# Altium footprint library MODULE_ESP32-S3-DEVKITC-1U-N8R8.PcbLib: 1 footprints
Each footprint in its own frame and in the unit in brackets; x right, y up, seen from the top. Pads: shape width x height; smd on the part's side, far side on the other; paste and mask are expansions set on the pad; w line width, h text height; cw(c..) or ccw(c..) is an arc to the next point about the centre after c.
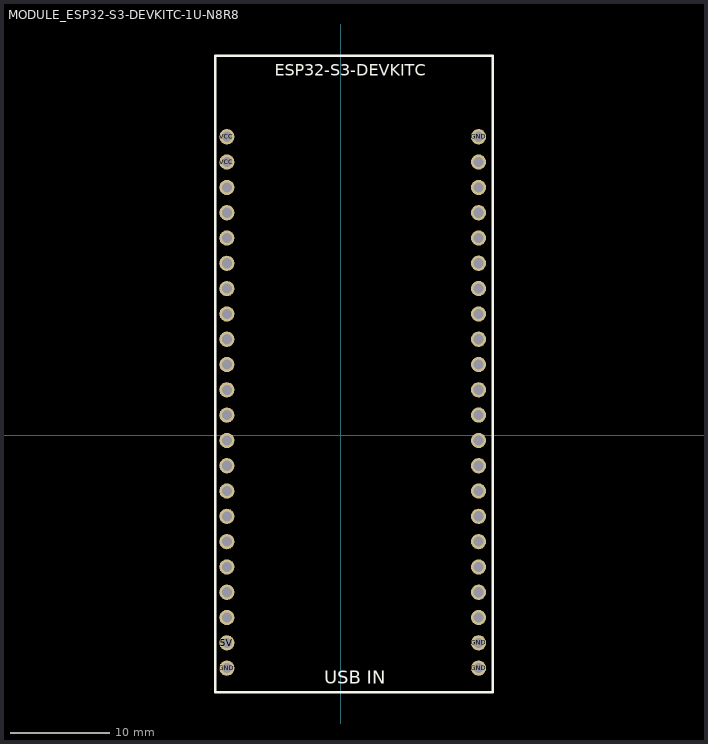
[diagram p0: the footprint, top view; thin cyan lines are the x and y axes]

## MODULE_ESP32-S3-DEVKITC-1U-N8R8 [mm]
height 7.39
pads (44):
  round 1.53 hole 1.02 mask+0.102: 5V(-11.43,-20.83) GND(-11.43,-23.37) GND(13.843,-23.368) GND(13.843,-20.828) GND(13.843,29.972) J1_3(-11.43,24.89) J1_4(-11.43,22.35) J1_5(-11.43,19.81) J1_6(-11.43,17.27) J1_7(-11.43,14.73) J1_8(-11.43,12.19) J1_9(-11.43,9.65) J1_10(-11.43,7.11) J1_11(-11.43,4.57) J1_12(-11.43,2.03) J1_13(-11.43,-0.51) J1_14(-11.43,-3.05) J1_15(-11.43,-5.59) J1_16(-11.43,-8.13) J1_17(-11.43,-10.67) J1_18(-11.43,-13.21) J1_19(-11.43,-15.75) J1_20(-11.43,-18.29) J3_2(13.843,27.432) J3_3(13.843,24.892) J3_4(13.843,22.352) J3_5(13.843,19.812) J3_6(13.843,17.272) J3_7(13.843,14.732) J3_8(13.843,12.192) J3_9(13.843,9.652) J3_10(13.843,7.112) J3_11(13.843,4.572) J3_12(13.843,2.032) J3_13(13.843,-0.508) J3_14(13.843,-3.048) J3_15(13.843,-5.588) J3_16(13.843,-8.128) J3_17(13.843,-10.668) J3_18(13.843,-13.208) J3_19(13.843,-15.748) J3_20(13.843,-18.288) VCC(-11.43,27.43) VCC(-11.43,29.97)
Top Overlay:
  lines w0.254: -12.573,-25.781 15.24,-25.781 15.24,38.1 -12.573,38.1 -12.573,-25.781
  text "USB IN" at -1.651,-25.372 h2.29
  text "ESP32-S3-DEVKITC" at -6.604,35.711 h2.03
3D body "YD-ESP32-S3 v34.step": height 8.21, standoff -3.7, extent -12.7,-25.924 15.25,38.1